# Altium footprint library MOLEX_48037-0001.PcbLib: 1 footprints
Each footprint in its own frame and in the unit in brackets; x right, y up, seen from the top. Pads: shape width x height; smd on the part's side, far side on the other; paste and mask are expansions set on the pad; w line width, h text height; cw(c..) or ccw(c..) is an arc to the next point about the centre after c.
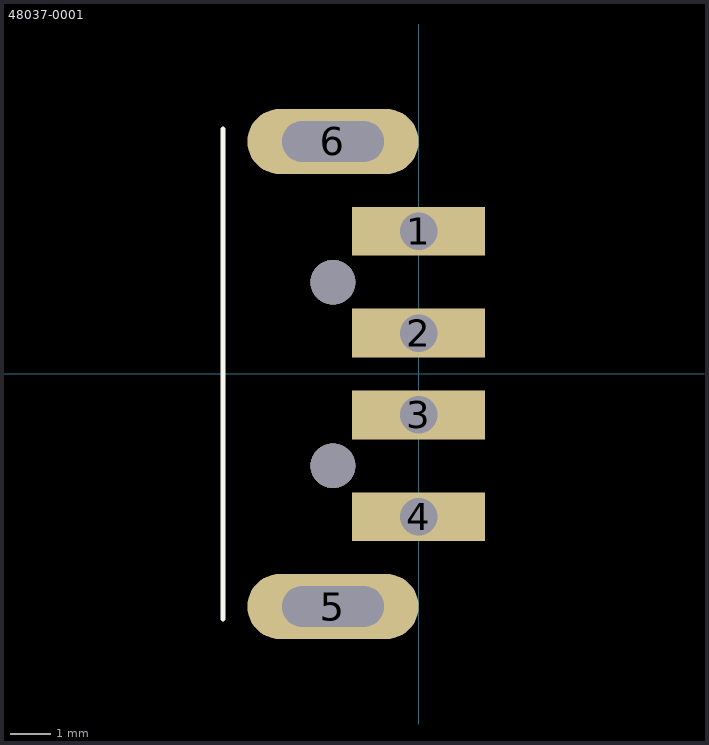
[diagram p0: the footprint, top view; thin cyan lines are the x and y axes]

## 48037-0001 [mm]
pads (8):
  rect 3.26x1.2 hole 0.92: 1(0,3.5) 2(0,1) 3(0,-1) 4(0,-3.5)
  oval 4.2x1.6 hole 1 slot 2.5 at 0 deg: 5(-2.1,-5.7) 6(-2.1,5.7)
  round 1.1 hole 1.1 unplated: ""(-2.1,-2.25) ""(-2.1,2.25)
Top Overlay:
  lines w0.127: -4.8,-6 -4.8,6
3D body: height 3.32, standoff -2.38, extent -19.722,-6.25 0.308,6.25